# Altium footprint library PHDR-1X3-TH-M.PcbLib: 1 footprints
Each footprint in its own frame and in the unit in brackets; x right, y up, seen from the top. Pads: shape width x height; smd on the part's side, far side on the other; paste and mask are expansions set on the pad; w line width, h text height; cw(c..) or ccw(c..) is an arc to the next point about the centre after c.
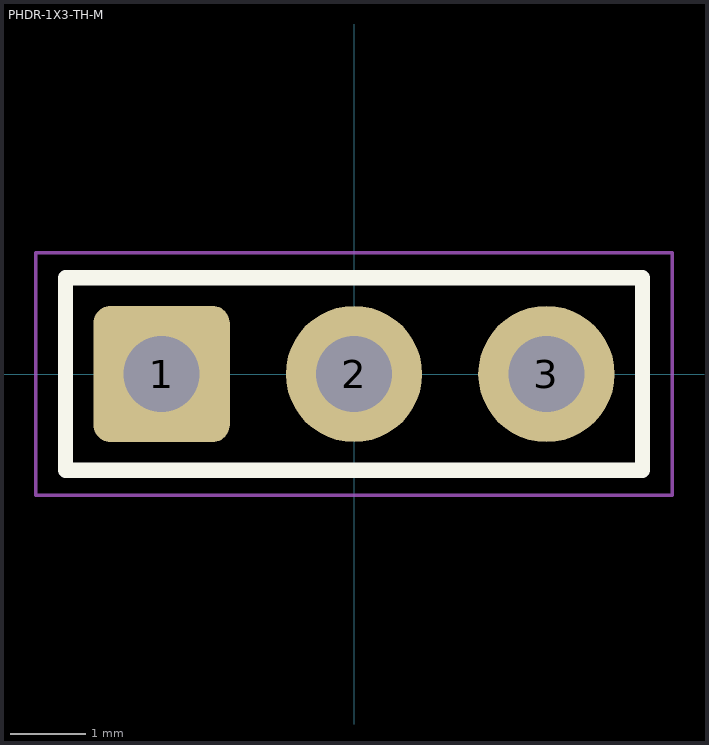
[diagram p0: the footprint, top view; thin cyan lines are the x and y axes]

## PHDR-1X3-TH-M [mm] "Pin Header 1x3 Male TH Pitch 2.54mm"
height 9.5
pads (3):
  rrect25% 1.8x1.8 hole 1: 1(-2.54,0)
  round 1.8 hole 1: 2(0,0) 3(2.54,0)
Top Overlay:
  lines w0.2: -1.27,1.27 -3.81,1.27 ; -3.81,1.27 -3.81,-1.27 3.81,-1.27 3.81,1.27 -3.81,1.27
Top Assembly:
  lines w0.1: -3.81,-1.27 -3.81,1.27 3.81,1.27 3.81,-1.27 -3.81,-1.27
Top Courtyard:
  lines w0.05: -4.2,-1.6 4.2,-1.6 4.2,1.6 -4.2,1.6 -4.2,-1.6
Top Designator:
  text ".Designator" at -7.498,-0.5 h1.5
3D body "Pin Header 1x3 TH Pitch 2.54mm.stp": height 9.5, standoff -3.2, extent -3.81,-1.27 3.81,1.27